# Altium footprint library BQ29330DBT.PcbLib: 1 footprints
Each footprint in its own frame and in the unit in brackets; x right, y up, seen from the top. Pads: shape width x height; smd on the part's side, far side on the other; paste and mask are expansions set on the pad; w line width, h text height; cw(c..) or ccw(c..) is an arc to the next point about the centre after c.
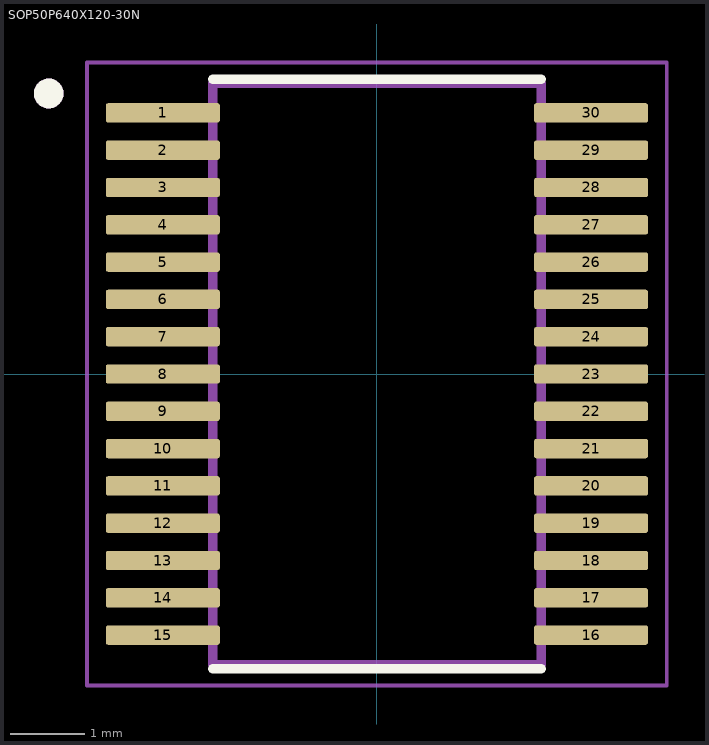
[diagram p0: the footprint, top view; thin cyan lines are the x and y axes]

## SOP50P640X120-30N [mm]
pads (30):
  rrect25% 1.53x0.26 smd: 1(-2.87,3.5) 2(-2.87,3) 3(-2.87,2.5) 4(-2.87,2) 5(-2.87,1.5) 6(-2.87,1) 7(-2.87,0.5) 8(-2.87,0) 9(-2.87,-0.5) 10(-2.87,-1) 11(-2.87,-1.5) 12(-2.87,-2) 13(-2.87,-2.5) 14(-2.87,-3) 15(-2.87,-3.5) 16(2.87,-3.5) 17(2.87,-3) 18(2.87,-2.5) 19(2.87,-2) 20(2.87,-1.5) 21(2.87,-1) 22(2.87,-0.5) 23(2.87,0) 24(2.87,0.5) 25(2.87,1) 26(2.87,1.5) 27(2.87,2) 28(2.87,2.5) 29(2.87,3) 30(2.87,3.5)
Top Overlay:
  circle w0.2: c-4.4,3.76 r0.1
  lines w0.127: -2.2,-3.95 2.2,-3.95 ; -2.2,3.95 2.2,3.95
Mechanical 13:
  circle w0.2: c-4.4,3.76 r0.1
  lines w0.127: -2.2,-3.9 -2.2,3.9 2.2,3.9 2.2,-3.9 -2.2,-3.9
Mechanical 15:
  lines w0.05: -3.885,-4.175 -3.885,4.175 3.885,4.175 3.885,-4.175 -3.885,-4.175
3D body "step_temp.STEP": height 1.2, standoff 0, extent -3.2,-3.9 3.2,3.9